# Altium footprint library PASSIVE_THD.PCBLIB: 248 footprints (part 11 of 16)
Each footprint in its own frame and in the unit in brackets; x right, y up, seen from the top. Pads: shape width x height; smd on the part's side, far side on the other; paste and mask are expansions set on the pad; w line width, h text height; cw(c..) or ccw(c..) is an arc to the next point about the centre after c.
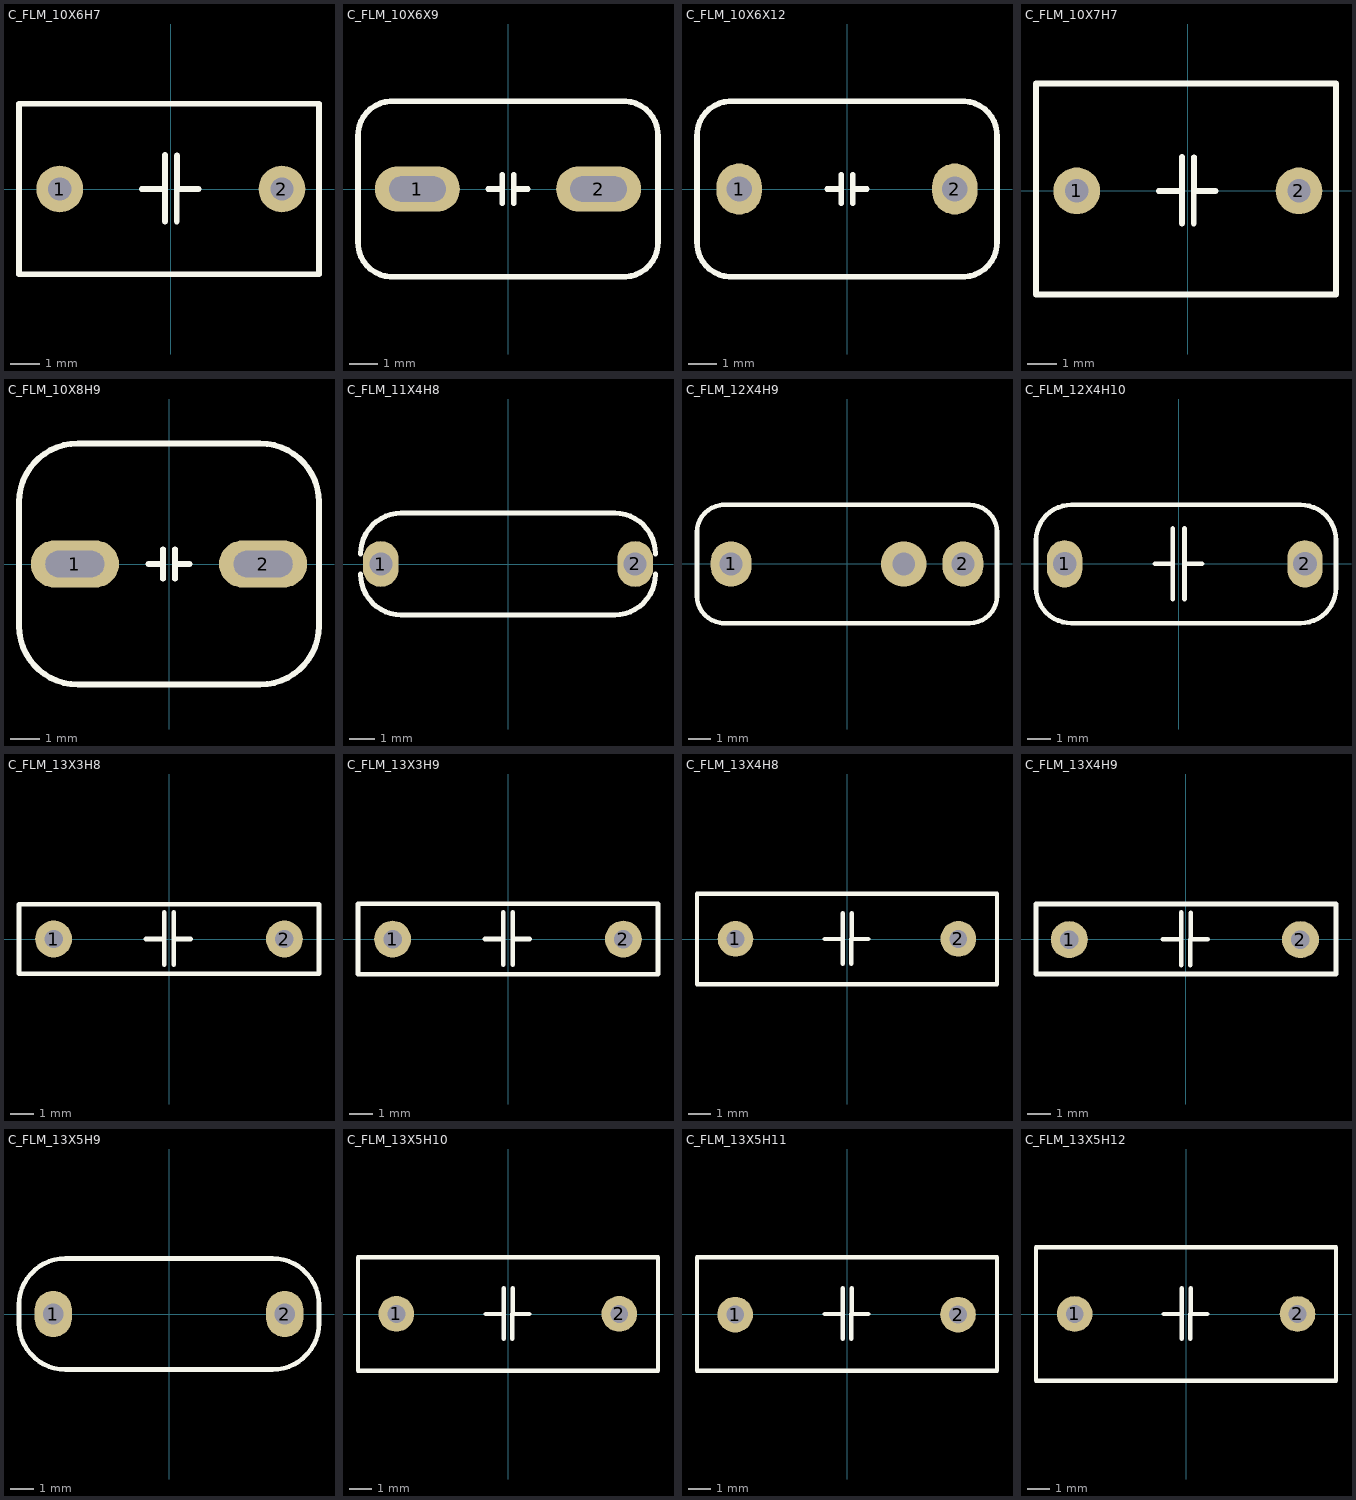
[diagram p10: the footprints below, top view; thin cyan lines are the x and y axes]

## C_FLM_10X6H7 [mm] "Capacitor, THT, Metallized Polyester Film with 10x5.7x7mm LxTxH"
height 7
pads (2):
  round 1.6 hole 0.8: 1(-3.81,0) 2(3.81,0)
TopOverlay:
  lines w0.2: -1,0 -0.2,0 ; -0.2,-1.119 -0.2,1.164 ; 0.2,-1.119 0.212,1.151 ; 0.2,0 0.95,0 ; -5.207,-2.921 -5.207,2.921 5.08,2.921 5.08,-2.921 -5.207,-2.921
3D body "FILM_RED_P750L1030W570H1250PD60.step": height 12.5, standoff -6.2, extent -5.15,-2.85 5.15,2.85

## C_FLM_10X6X9 [mm] "CAP, POLYESTER, 10.5X6.0X9.0mm pitch: 7.6mm"
height 9
pads (2):
  oval 3x1.6 hole 0.9 slot 2 at 0 deg unplated mask+0.075: 1(-3.2,0) 2(3.2,0)
TopOverlay:
  lines w0.2: -0.7,0 -0.2,0 ; -0.2,-0.5 -0.2,0.5 ; 0.2,-0.5 0.2,0.5 ; 0.2,0 0.7,0 ; -5.299,-1.843 ccw(c-4.1,-1.9) -4.157,-3.099 4.157,-3.099 ccw(c4.1,-1.9) 5.299,-1.843 5.299,1.843 ccw(c4.1,1.9) 4.157,3.099 -4.157,3.099 ccw(c-4.1,1.9) -5.299,1.843 -5.299,-1.843
3D body "CAPF_6.0x9.0x10.5 TxHxW 7.5mmLS.STEP": height 9, standoff -2.54, extent -5.25,-3 5.25,3

## C_FLM_10X6X12 [mm] "CAP, POLYESTER, 10.3X6.0X12.0mm pitch: 7.6mm"
height 6
pads (2):
  oval 1.6x1.8 hole 0.9 unplated: 1(-3.81,0) 2(3.81,0)
TopOverlay:
  lines w0.2: -0.7,0 -0.2,0 ; -0.2,-0.5 -0.2,0.5 ; 0.2,-0.5 0.2,0.5 ; 0.2,0 0.7,0 ; -5.299,-1.843 ccw(c-4.1,-1.9) -4.157,-3.099 4.157,-3.099 ccw(c4.1,-1.9) 5.299,-1.843 5.299,1.843 ccw(c4.1,1.9) 4.157,3.099 -4.157,3.099 ccw(c-4.1,1.9) -5.299,1.843 -5.299,-1.843
3D body "CAPMF_10.3x6.0x13.0mm WxTxH 7.5mmLS.STEP": height 13, standoff -2.54, extent -5.15,-3 5.15,3

## C_FLM_10X7H7 [mm] "Capacitor, THT, Metallized Polyester Film 10x7.2x7mm LxTxH"
height 7
pads (2):
  round 1.6 hole 0.8: 1(-3.81,0) 2(3.81,0)
TopOverlay:
  lines w0.2: -1,0 -0.2,0 ; -0.2,-1.119 -0.2,1.164 ; 0.2,-1.119 0.212,1.151 ; 0.2,0 0.95,0 ; -5.207,-3.556 -5.207,3.683 5.08,3.683 5.08,-3.556 -5.207,-3.556
3D body "FILM_RED_P750L1030W720H1250PD60.step": height 12.5, standoff -6.2, extent -5.15,-3.6 5.15,3.6

## C_FLM_10X8H9 [mm] "CAP, POLYESTER, 10.0X8.0 pitch: 7.6mm"
height 10
pads (2):
  oval 3x1.6 hole 0.9 slot 2 at 0 deg unplated mask+0.075: 1(-3.2,0) 2(3.2,0)
TopOverlay:
  lines w0.2: -0.7,0 -0.2,0 ; -0.2,-0.5 -0.2,0.5 ; 0.2,-0.5 0.2,0.5 ; 0.2,0 0.7,0 ; -5.1,-2.1 ccw(c-3.1,-2.1) -3.1,-4.1 3.1,-4.1 ccw(c3.1,-2.1) 5.1,-2.1 5.1,2.1 ccw(c3.1,2.1) 3.1,4.1 -3.1,4.1 ccw(c-3.1,2.1) -5.1,2.1 -5.1,-2.1
3D body "mfcap_7.5mm 10x8x11mm.stp": height 11, standoff -2.54, extent -5,-4 5,4

## C_FLM_11X4H8 [mm] "CAP, POLYESTER, 11.4X3.8X7.8mm pitch: 10mm, 0.1uF 400V"
height 7.8
pads (2):
  oval 1.4x1.8 hole 0.9: 1(-5,0) 2(5,0)
TopOverlay:
  lines w0.2: -5.8,-0.4 ccw(c-4.2,-0.4) -4.2,-2 4.2,-2 ccw(c4.2,-0.4) 5.8,-0.4 ; -5.8,0.4 cw(c-4.2,0.4) -4.2,2 4.2,2 cw(c4.2,0.4) 5.8,0.4
3D body: height 1, standoff -3, extent 4.7,-0.3 5.3,0.299
3D body: height 1, standoff -3, extent -5.3,-0.3 -4.7,0.299
3D body: height 7.8, standoff 0, extent -5.7,-1.9 5.7,1.9

## C_FLM_12X4H9 [mm] "CAP, POLYESTER, 12.5X4.5X9.0 pitch: 10mm"
height 9
pads (2):
  oval 1.8x2 hole 1: 1(-5.1,0) 2(5.1,0)
via 2.5,0 diameter 2 hole 1
TopOverlay:
  lines w0.2: -5.5,-2.6 5.4,-2.6 ccw(c5.4,-1.4) 6.6,-1.4 6.6,1.4 ccw(c5.4,1.4) 5.4,2.6 -5.5,2.6 ; -5.4,-2.6 cw(c-5.4,-1.4) -6.6,-1.4 -6.6,1.4 cw(c-5.4,1.4) -5.4,2.6
3D body "User Library-Capacitor MKT_B32591C3104 (Pitch 10mm).step": height 12.5, standoff -6, extent -6.5,-2.5 6.5,2.5

## C_FLM_12X4H10 [mm] "Capacitor, THT, Metallized Polyester Film. 12.5x4.5x10mm"
height 9
pads (2):
  oval 1.5x2 hole 1: 1(-4.826,0) 2(5.359,0)
TopOverlay:
  lines w0.2: -1,0 -0.25,0 ; -0.25,-1.5 -0.25,1.5 ; 0.25,-1.5 0.25,1.5 ; 0.25,0 1,0 ; -6.04,-1.016 ccw(c-4.54,-1.016) -4.54,-2.516 5.175,-2.516 ccw(c5.175,-1.016) 6.675,-1.016 6.675,1 ccw(c5.175,1) 5.175,2.5 -4.54,2.5 ccw(c-4.54,1) -6.04,1 -6.04,-1.016
3D body "CAPMF_12.5x4.5x8mm LxTxH 10mmLS.STEP": height 9, standoff -2.54, extent -5.996,-2.25 6.504,2.25

## C_FLM_13X3H8 [mm] "Capacitor, THT, Metallized Polyester Film 13x3x8.5mm LxTxH"
height 8.5
pads (2):
  round 1.6 hole 0.8: 1(-5,0) 2(5,0)
TopOverlay:
  lines w0.2: -1,0 -0.2,0 ; -0.2,-1.119 -0.2,1.164 ; 0.2,-1.119 0.212,1.151 ; 0.2,0 0.95,0 ; -6.5,-1.5 -6.5,1.5 6.5,1.5 6.5,-1.5 -6.5,-1.5
3D body "FILM_RED_P1000L400W950H1300PD60.step": height 9.5, standoff -6.2, extent -6.5,-1.5 6.5,1.5

## C_FLM_13X3H9 [mm] "Capacitor, THT, Metallized Polyester Film with 13x3x9mm LxTxH"
height 7
pads (2):
  round 1.6 hole 0.8: 1(-5,-0.007) 2(5,-0.007)
TopOverlay:
  lines w0.2: -1,0 -0.2,0 ; -0.2,-1.119 -0.2,1.164 ; 0.2,-1.119 0.212,1.151 ; 0.2,0 0.95,0 ; -6.5,-1.524 -6.5,1.524 6.5,1.524 6.5,-1.524 -6.5,-1.524
3D body "FILM_RED_P1000L300W900H1300PD60.step": height 9, standoff -6.2, extent -6.5,-1.5 6.5,1.5

## C_FLM_13X4H8 [mm] "Capacitor, THT, Metallized Polyester Film 13.5x4x8.5mm LxTxH"
height 7
pads (2):
  round 1.6 hole 0.8: 1(-5.005,0.006) 2(4.995,0.006)
TopOverlay:
  lines w0.2: -1,0 -0.2,0 ; -0.2,-1.119 -0.2,1.164 ; 0.2,-1.119 0.212,1.151 ; 0.2,0 0.95,0 ; -6.731,-2.032 -6.731,2.032 6.731,2.032 6.731,-2.032 -6.731,-2.032
3D body "FILM_RED_P1000L400W850H1350PD60.step": height 8.5, standoff -6.2, extent -6.75,-2 6.75,2

## C_FLM_13X4H9 [mm] "Capacitor, THT, Metallized Polyester Film 13x4x9.5mm LxTxH"
height 7
pads (2):
  round 1.6 hole 0.8: 1(-5.038,-0.015) 2(4.962,-0.015)
TopOverlay:
  lines w0.2: -1,0 -0.2,0 ; -0.2,-1.119 -0.2,1.164 ; 0.2,-1.119 0.212,1.151 ; 0.2,0 0.95,0 ; -6.477,-1.5 6.5,-1.5 6.5,1.524 -6.477,1.524 -6.477,-1.5
3D body "FILM_RED_P1000L400W950H1300PD60.step": height 9.5, standoff -6.2, extent -6.5,-1.5 6.5,1.5

## C_FLM_13X5H9 [mm] "CAP, POLYESTER, 12.8X4.8 pitch: 10mm"
pads (2):
  oval 1.6x2 hole 0.9: 1(-5,0) 2(5,0)
TopOverlay:
  lines w0.2: -6.48,-0.4 ccw(c-4.48,-0.4) -4.48,-2.4 4.48,-2.4 ccw(c4.48,-0.4) 6.48,-0.4 6.48,0.4 ccw(c4.48,0.4) 4.48,2.4 -4.48,2.4 ccw(c-4.48,0.4) -6.48,0.4 -6.48,-0.4
3D body "Cap 10n - 630V Poly_2009.STEP": height 12.19, standoff -1.73, extent -6.375,-2.401 6.375,2.35

## C_FLM_13X5H10 [mm] "Capacitor, THT, Metallized Polyester Film 13x5x10mm LxTxH"
height 7
pads (2):
  round 1.6 hole 0.8: 1(-5.007,0.004) 2(4.993,0.004)
TopOverlay:
  lines w0.2: -1,0 -0.2,0 ; -0.2,-1.119 -0.2,1.164 ; 0.2,-1.119 0.212,1.151 ; 0.2,0 0.95,0 ; -6.731,-2.54 6.731,-2.54 6.731,2.54 -6.731,2.54 -6.731,-2.54
3D body "FILM_RED_P1000L500W1000H1350PD60.step": height 10, standoff -6.2, extent -6.75,-2.5 6.75,2.5

## C_FLM_13X5H11 [mm] "Capacitor, THT, Metallized Polyester Film 13x5x11mm LxTxH"
height 7
pads (2):
  round 1.6 hole 0.8: 1(-5.016,-0.029) 2(4.984,-0.029)
TopOverlay:
  lines w0.2: -1,0 -0.2,0 ; -0.2,-1.119 -0.2,1.164 ; 0.2,-1.119 0.212,1.151 ; 0.2,0 0.95,0 ; -6.731,-2.54 6.731,-2.54 6.731,2.54 -6.731,2.54 -6.731,-2.54
3D body "FILM_RED_P1000L500W1100H1300PD60.step": height 11, standoff -6.2, extent -6.5,-2.5 6.5,2.5

## C_FLM_13X5H12 [mm] "Capacitor, THT, Metallized Polyester Film 13x5x12mm LxTxH"
height 7
pads (2):
  round 1.6 hole 0.8: 1(-4.994,0.003) 2(5.006,0.003)
TopOverlay:
  lines w0.2: -1,0 -0.2,0 ; -0.2,-1.119 -0.2,1.164 ; 0.2,-1.119 0.212,1.151 ; 0.2,0 0.95,0 ; -6.731,-3 6.731,-3 6.731,3 -6.731,3 -6.731,-3
3D body "FILM_RED_P1000L600W1200H1300PD60.step": height 12, standoff -6.2, extent -6.5,-3 6.5,3